# Altium schematic symbol library admin_light.SchLib: 2 symbols
Pins are listed as number, name and electrical type; pins without a type are passive.

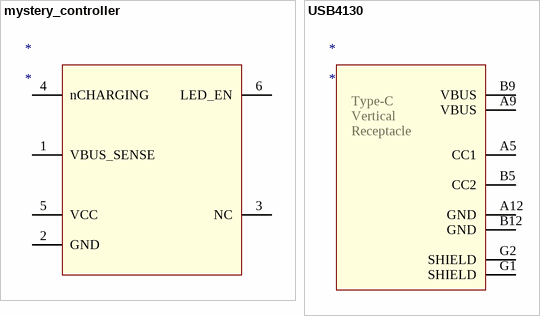
[diagram p0: symbols mystery_controller to USB4130]

## mystery_controller
designator *
pins: 1 VBUS_SENSE, 2 GND, 3 NC, 4 nCHARGING, 5 VCC, 6 LED_EN

## USB4130
designator *
pins: A5 CC1, A9 VBUS, A12 GND, B5 CC2, B9 VBUS, B12 GND, G1 SHIELD, G2 SHIELD
text: Type-C; Vertical; Receptacle